# Altium footprint library 6903 5710 xx 72.PcbLib: 12 footprints
Each footprint in its own frame and in the unit in brackets; x right, y up, seen from the top. Pads: shape width x height; smd on the part's side, far side on the other; paste and mask are expansions set on the pad; w line width, h text height; cw(c..) or ccw(c..) is an arc to the next point about the centre after c.
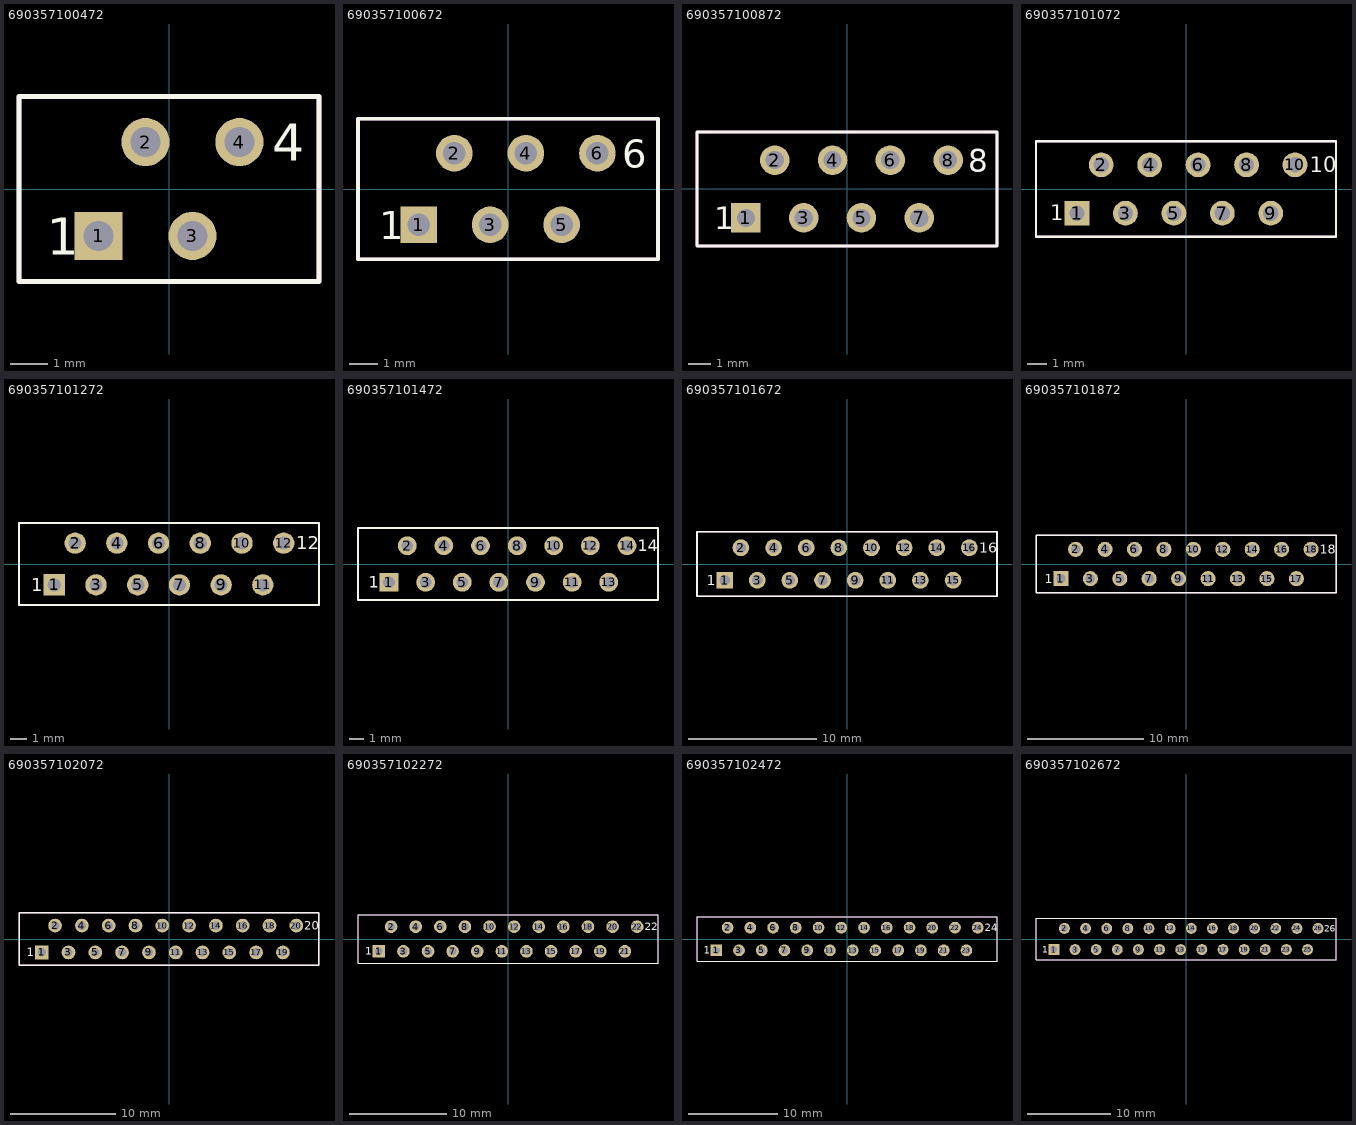
[diagram p0: the footprints below, top view; thin cyan lines are the x and y axes]

## 690357100472 [mm] "4 pins, straight"
height 7
pads (4):
  rect 1.3x1.3 hole 0.8: 1(-1.905,-1.27)
  round 1.3 hole 0.8: 2(-0.635,1.27) 3(0.635,-1.27) 4(1.905,1.27)
Top Overlay:
  lines w0.127: -4.055,-2.5 4.055,-2.5 ; -4.055,-2.5 -4.055,2.5 ; -4.055,-2.5 4.055,-2.5 ; -4.055,-2.5 -4.055,2.5 ; -4.055,2.5 4.055,2.5 ; -4.055,2.5 4.055,2.5 ; 4.055,-2.5 4.055,2.5 ; 4.055,-2.5 4.055,2.5
  text "4" at 2.794,0.762 h1
  text "1" at -3.302,-1.778 h1
Mechanical 13:
  lines w0.127: -4.055,-2.5 -4.055,2.5 4.055,2.5 4.055,-2.5 -4.055,-2.5
3D body: height 7.2, standoff -2.9, extent -4.055,-2.5 4.055,2.5

## 690357100672 [mm] "6 pins, straight"
height 7
pads (6):
  rect 1.3x1.3 hole 0.8: 1(-3.175,-1.27)
  round 1.3 hole 0.8: 2(-1.905,1.27) 3(-0.635,-1.27) 4(0.635,1.27) 5(1.905,-1.27) 6(3.175,1.27)
Top Overlay:
  lines w0.127: -5.325,-2.5 -5.325,2.5 ; -5.325,-2.5 5.325,-2.5 ; -5.325,-2.5 5.325,-2.5 ; -5.325,-2.5 -5.325,2.5 ; -5.325,2.5 5.325,2.5 ; -5.325,2.5 5.325,2.5 ; 5.325,-2.5 5.325,2.5 ; 5.325,-2.5 5.325,2.5
  text "1" at -4.572,-1.778 h1
  text "6" at 4.064,0.762 h1
Mechanical 13:
  lines w0.127: -5.325,-2.5 -5.325,2.5 5.325,2.5 5.325,-2.5 -5.325,-2.5
3D body: height 7.5, standoff -2.6, extent -5.325,-2.5 5.325,2.5

## 690357100872 [mm] "8 pins, straight"
height 7
pads (8):
  rect 1.3x1.3 hole 0.8: 1(-4.445,-1.27)
  round 1.3 hole 0.8: 2(-3.175,1.27) 3(-1.905,-1.27) 4(-0.635,1.27) 5(0.635,-1.27) 6(1.905,1.27) 7(3.175,-1.27) 8(4.445,1.27)
Top Overlay:
  lines w0.127: -6.595,-2.5 6.595,-2.5 6.595,2.5 -6.595,2.5 -6.595,-2.5
  text "1" at -5.842,-1.778 h1
  text "8" at 5.334,0.762 h1
Mechanical 13:
  lines w0.127: -6.595,-2.5 6.595,-2.5 6.595,2.5 -6.595,2.5 -6.595,-2.5
3D body: height 7.2, standoff -2.9, extent -6.595,-2.5 6.595,2.5

## 690357101072 [mm] "10 pins, straight"
height 7
pads (10):
  rect 1.3x1.3 hole 0.8: 1(-5.715,-1.27)
  round 1.3 hole 0.8: 2(-4.445,1.27) 3(-3.175,-1.27) 4(-1.905,1.27) 5(-0.635,-1.27) 6(0.635,1.27) 7(1.905,-1.27) 8(3.175,1.27) 9(4.445,-1.27) 10(5.715,1.27)
Top Overlay:
  lines w0.127: -7.865,-2.5 7.865,-2.5 ; -7.865,-2.5 -7.865,2.5 ; -7.865,-2.5 7.865,-2.5 ; -7.865,-2.5 -7.865,2.5 ; -7.865,2.5 7.865,2.5 ; -7.865,2.5 7.865,2.5 ; 7.865,-2.5 7.865,2.5 ; 7.865,-2.5 7.865,2.5
  text "10" at 6.477,0.889 h0.8
  text "1" at -7.112,-1.651 h0.8
Mechanical 13:
  lines w0.127: -7.865,-2.5 7.865,-2.5 7.865,2.5 -7.865,2.5 -7.865,-2.5
3D body: height 7.2, standoff -2.9, extent -7.865,-2.5 7.865,2.5

## 690357101272 [mm] "12 pins, straight"
height 7
pads (12):
  rect 1.3x1.3 hole 0.8: 1(-6.985,-1.27)
  round 1.3 hole 0.8: 2(-5.715,1.27) 3(-4.445,-1.27) 4(-3.175,1.27) 5(-1.905,-1.27) 6(-0.635,1.27) 7(0.635,-1.27) 8(1.905,1.27) 9(3.175,-1.27) 10(4.445,1.27) 11(5.715,-1.27) 12(6.985,1.27)
Top Overlay:
  lines w0.127: -9.135,-2.5 9.135,-2.5 9.135,2.5 -9.135,2.5 -9.135,-2.5
  text "1" at -8.382,-1.651 h0.8
  text "12" at 7.747,0.889 h0.8
Mechanical 13:
  lines w0.127: -9.135,-2.5 -9.135,2.5 9.135,2.5 9.135,-2.5 -9.135,-2.5
3D body: height 7.2, standoff -2.9, extent -9.135,-2.5 9.135,2.5

## 690357101472 [mm] "14 pins, straight"
height 7
pads (14):
  rect 1.3x1.3 hole 0.8: 1(-8.255,-1.27)
  round 1.3 hole 0.8: 2(-6.985,1.27) 3(-5.715,-1.27) 4(-4.445,1.27) 5(-3.175,-1.27) 6(-1.905,1.27) 7(-0.635,-1.27) 8(0.635,1.27) 9(1.905,-1.27) 10(3.175,1.27) 11(4.445,-1.27) 12(5.715,1.27) 13(6.985,-1.27) 14(8.255,1.27)
Top Overlay:
  lines w0.127: -10.405,-2.5 10.405,-2.5 10.405,2.5 -10.405,2.5 -10.405,-2.5
  text "1" at -9.652,-1.651 h0.8
  text "14" at 9.017,0.889 h0.8
Mechanical 13:
  lines w0.127: -10.405,-2.5 -10.405,2.5 10.405,2.5 10.405,-2.5 -10.405,-2.5
3D body: height 7.2, standoff -2.9, extent -10.405,-2.5 10.405,2.5

## 690357101672 [mm] "16 pins, straight"
height 7
pads (16):
  rect 1.3x1.3 hole 0.8: 1(-9.525,-1.27)
  round 1.3 hole 0.8: 2(-8.255,1.27) 3(-6.985,-1.27) 4(-5.715,1.27) 5(-4.445,-1.27) 6(-3.175,1.27) 7(-1.905,-1.27) 8(-0.635,1.27) 9(0.635,-1.27) 10(1.905,1.27) 11(3.175,-1.27) 12(4.445,1.27) 13(5.715,-1.27) 14(6.985,1.27) 15(8.255,-1.27) 16(9.525,1.27)
Top Overlay:
  lines w0.127: -11.675,-2.5 11.675,-2.5 11.675,2.5 -11.675,2.5 -11.675,-2.5
  text "16" at 10.287,0.889 h0.8
  text "1" at -10.922,-1.651 h0.8
Mechanical 13:
  lines w0.127: -11.675,-2.5 11.675,-2.5 11.675,2.5 -11.675,2.5 -11.675,-2.5
3D body: height 7.2, standoff -2.9, extent -11.675,-2.5 11.675,2.5

## 690357101872 [mm] "18 pins, straight"
height 7
pads (18):
  rect 1.3x1.3 hole 0.8: 1(-10.795,-1.27)
  round 1.3 hole 0.8: 2(-9.525,1.27) 3(-8.255,-1.27) 4(-6.985,1.27) 5(-5.715,-1.27) 6(-4.445,1.27) 7(-3.175,-1.27) 8(-1.905,1.27) 9(-0.635,-1.27) 10(0.635,1.27) 11(1.905,-1.27) 12(3.175,1.27) 13(4.445,-1.27) 14(5.715,1.27) 15(6.985,-1.27) 16(8.255,1.27) 17(9.525,-1.27) 18(10.795,1.27)
Top Overlay:
  lines w0.127: -12.945,-2.5 12.945,-2.5 12.945,2.5 -12.945,2.5 -12.945,-2.5
  text "18" at 11.557,0.889 h0.8
  text "1" at -12.192,-1.651 h0.8
Mechanical 13:
  lines w0.127: -12.945,-2.5 -12.945,2.5 12.945,2.5 12.945,-2.5 -12.945,-2.5
3D body: height 7.2, standoff -2.9, extent -12.945,-2.5 12.945,2.5

## 690357102072 [mm] "20 pins, straight"
height 7
pads (20):
  rect 1.3x1.3 hole 0.8: 1(-12.065,-1.27)
  round 1.3 hole 0.8: 2(-10.795,1.27) 3(-9.525,-1.27) 4(-8.255,1.27) 5(-6.985,-1.27) 6(-5.715,1.27) 7(-4.445,-1.27) 8(-3.175,1.27) 9(-1.905,-1.27) 10(-0.635,1.27) 11(0.635,-1.27) 12(1.905,1.27) 13(3.175,-1.27) 14(4.445,1.27) 15(5.715,-1.27) 16(6.985,1.27) 17(8.255,-1.27) 18(9.525,1.27) 19(10.795,-1.27) 20(12.065,1.27)
Top Overlay:
  lines w0.127: -14.215,-2.5 -14.215,2.5 14.215,2.5 14.215,-2.5 -14.215,-2.5
  text "20" at 12.827,0.889 h0.8
  text "1" at -13.462,-1.651 h0.8
Mechanical 13:
  lines w0.127: -14.215,-2.5 -14.215,2.5 14.215,2.5 14.215,-2.5 -14.215,-2.5
3D body: height 7.2, standoff -2.9, extent -14.215,-2.5 14.215,2.5

## 690357102272 [mm] "22 pins, straight"
height 7
pads (22):
  rect 1.3x1.3 hole 0.8: 1(-13.335,-1.27)
  round 1.3 hole 0.8: 2(-12.065,1.27) 3(-10.795,-1.27) 4(-9.525,1.27) 5(-8.255,-1.27) 6(-6.985,1.27) 7(-5.715,-1.27) 8(-4.445,1.27) 9(-3.175,-1.27) 10(-1.905,1.27) 11(-0.635,-1.27) 12(0.635,1.27) 13(1.905,-1.27) 14(3.175,1.27) 15(4.445,-1.27) 16(5.715,1.27) 17(6.985,-1.27) 18(8.255,1.27) 19(9.525,-1.27) 20(10.795,1.27) 21(12.065,-1.27) 22(13.335,1.27)
Top Overlay:
  lines w0.127: -15.485,-2.5 15.485,-2.5 15.485,2.5 -15.485,2.5 -15.485,-2.5
  text "22" at 14.097,0.889 h0.8
  text "1" at -14.732,-1.651 h0.8
Mechanical 13:
  lines w0.127: -15.485,-2.5 15.485,-2.5 15.485,2.5 -15.485,2.5 -15.485,-2.5
3D body: height 7.2, standoff -2.9, extent -15.485,-2.5 15.485,2.5

## 690357102472 [mm] "24 pins, straight"
height 7
pads (24):
  rect 1.3x1.3 hole 0.8: 1(-14.605,-1.27)
  round 1.3 hole 0.8: 2(-13.335,1.27) 3(-12.065,-1.27) 4(-10.795,1.27) 5(-9.525,-1.27) 6(-8.255,1.27) 7(-6.985,-1.27) 8(-5.715,1.27) 9(-4.445,-1.27) 10(-3.175,1.27) 11(-1.905,-1.27) 12(-0.635,1.27) 13(0.635,-1.27) 14(1.905,1.27) 15(3.175,-1.27) 16(4.445,1.27) 17(5.715,-1.27) 18(6.985,1.27) 19(8.255,-1.27) 20(9.525,1.27) 21(10.795,-1.27) 22(12.065,1.27) 23(13.335,-1.27) 24(14.605,1.27)
Top Overlay:
  lines w0.127: -16.755,-2.5 16.755,-2.5 16.755,2.5 -16.755,2.5 -16.755,-2.5
  text "1" at -16.002,-1.651 h0.8
  text "24" at 15.367,0.889 h0.8
Mechanical 13:
  lines w0.127: -16.755,-2.5 16.755,-2.5 16.755,2.5 -16.755,2.5 -16.755,-2.5
3D body: height 7.2, standoff -2.9, extent -16.755,-2.5 16.755,2.5

## 690357102672 [mm] "26 pins, straight"
height 7
pads (26):
  rect 1.3x1.3 hole 0.8: 1(-15.875,-1.27)
  round 1.3 hole 0.8: 2(-14.605,1.27) 3(-13.335,-1.27) 4(-12.065,1.27) 5(-10.795,-1.27) 6(-9.525,1.27) 7(-8.255,-1.27) 8(-6.985,1.27) 9(-5.715,-1.27) 10(-4.445,1.27) 11(-3.175,-1.27) 12(-1.905,1.27) 13(-0.635,-1.27) 14(0.635,1.27) 15(1.905,-1.27) 16(3.175,1.27) 17(4.445,-1.27) 18(5.715,1.27) 19(6.985,-1.27) 20(8.255,1.27) 21(9.525,-1.27) 22(10.795,1.27) 23(12.065,-1.27) 24(13.335,1.27) 25(14.605,-1.27) 26(15.875,1.27)
Top Overlay:
  lines w0.127: -18.025,-2.5 18.025,-2.5 18.025,2.5 -18.025,2.5 -18.025,-2.5
  text "26" at 16.637,0.889 h0.8
  text "1" at -17.272,-1.651 h0.8
Mechanical 13:
  lines w0.127: -18.025,-2.5 18.025,-2.5 18.025,2.5 -18.025,2.5 -18.025,-2.5
3D body: height 7.2, standoff -2.9, extent -18.025,-2.5 18.025,2.5